# EAGLE library part 9P_0.5MM_ZIF_CONN (library CYCFI_Con)
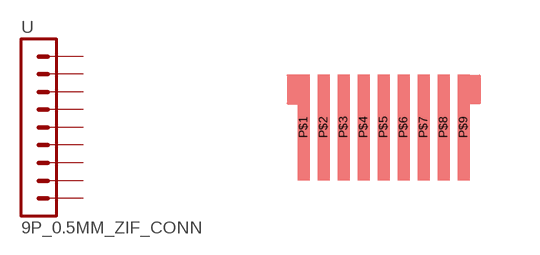
[diagram p23: symbol with the pads of 9P-0.5MMPITCH-ZIF; footprint 9P-0.5MMPITCH-ZIF]

Designator prefix -

## 9P_0.5MM_ZIF_CONN  [9P-0.5MMPITCH-ZIF]
P$1  1  pas
P$2  2  pas
P$3  3  pas
P$4  4  pas
P$5  5  pas
P$6  6  pas
P$7  7  pas
P$8  8  pas
P$9  9  pas

## Footprint 9P-0.5MMPITCH-ZIF (pad centres in mm)
smd 0.3 x 2.65: P$1 -1.98,0; P$2 -1.48,0; P$3 -0.98,0; P$4 -0.48,0; P$5 0.02,0; P$6 0.52,0; P$7 1.02,0; P$8 1.52,0; P$9 2.02,0